# EAGLE library part PIN_HEADER_MALE-1X06 (library WarthogRobotics-Connectors)
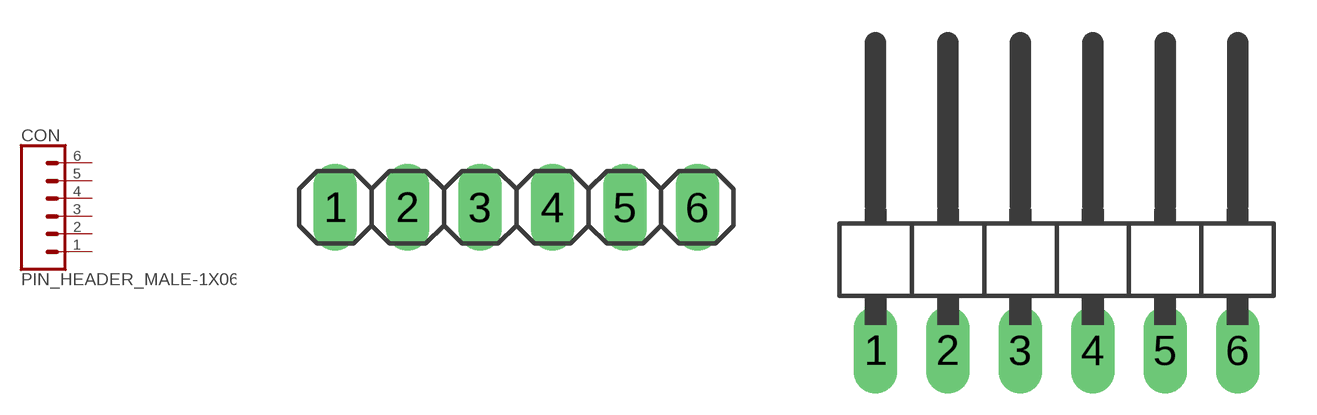
[diagram p0: symbol with the pads of 1X06-2.54MM; footprints 1X06-2.54MM, 1X06/90-2.54MM]

Designator prefix CON

## PIN_HEADER_MALE-1X06  [1X06-2.54MM]
1  1  pas
2  2  pas
3  3  pas
4  4  pas
5  5  pas
6  6  pas

## PIN_HEADER_MALE-1X061X06/90  [1X06/90-2.54MM]
Pads as for 1X06-2.54MM

## Footprint 1X06-2.54MM (pad centres in mm)
PIN HEADER
drill 1.016 long: 1 -6.35,0; 2 -3.81,0; 3 -1.27,0; 4 1.27,0; 5 3.81,0; 6 6.35,0

## Footprint 1X06/90-2.54MM (pad centres in mm)
PIN HEADER
drill 1.016 long: 1 -6.35,-3.81; 2 -3.81,-3.81; 3 -1.27,-3.81; 4 1.27,-3.81; 5 3.81,-3.81; 6 6.35,-3.81